# EAGLE library part I__74*348 (library ..SMD)
8-to 3 line PRIORITY ENCODER, 3-state
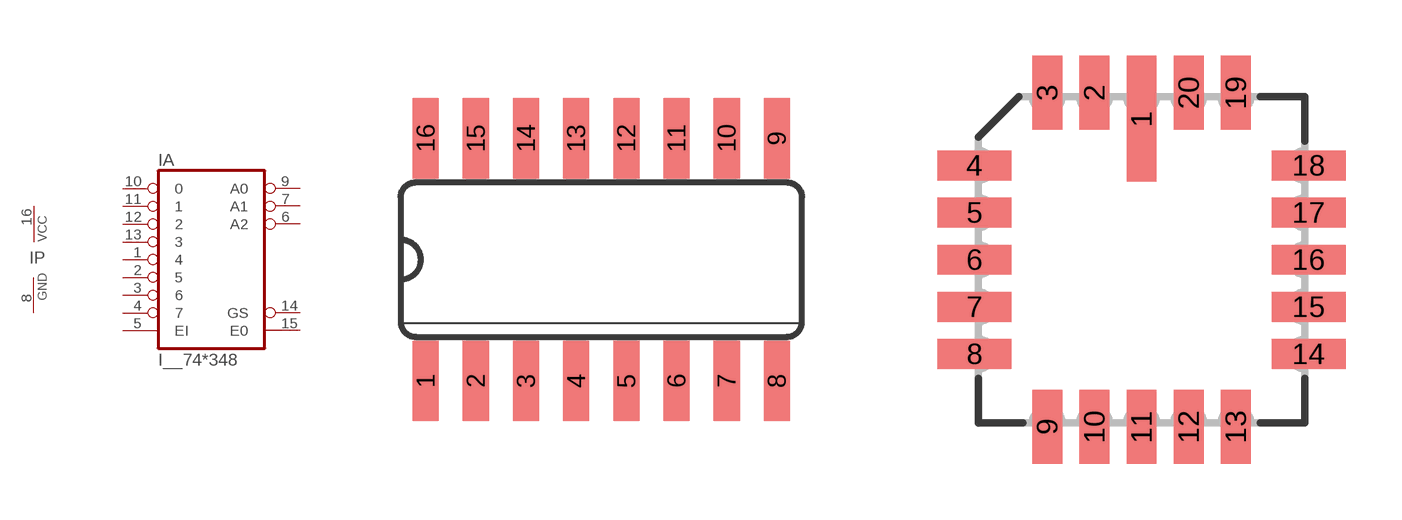
[diagram p267: symbol with the pads of SO16; footprints SO16, LCC20]

Designator prefix I; gates A=74348 P=PWRN-2

## I__74LS348D  [SO16]
1  A:4  in
2  A:5  in
3  A:6  in
4  A:7  in
5  A:EI  in
6  A:A2  hiz
7  A:A1  hiz
8  P:GND  pwr
9  A:A0  hiz
10  A:0  in
11  A:1  in
12  A:2  in
13  A:3  in
14  A:GS  hiz
15  A:E0  out
16  P:VCC  pwr

## I__74LS348FK  [LCC20]
2  A:4  in
3  A:5  in
4  A:6  in
5  A:7  in
7  A:EI  in
8  A:A2  hiz
9  A:A1  hiz
10  P:GND  pwr
12  A:A0  hiz
13  A:0  in
14  A:1  in
15  A:2  in
17  A:3  in
18  A:GS  hiz
19  A:E0  out
20  P:VCC  pwr

## Footprint SO16 (pad centres in mm)
Small Outline Package 16
smd 0.66 x 2.032: 1 -4.445,-3.073; 2 -3.175,-3.073; 3 -1.905,-3.073; 4 -0.635,-3.073; 5 0.635,-3.073; 6 1.905,-3.073; 7 3.175,-3.073; 8 4.445,-3.073; 9 4.445,3.073; 10 3.175,3.073; 11 1.905,3.073; 12 0.635,3.073; 13 -0.635,3.073; 14 -1.905,3.073; 15 -3.175,3.073; 16 -4.445,3.073

## Footprint LCC20 (pad centres in mm)
Leadless Chip Carrier Ceramic Package
smd 0.8 x 3.4: 1 0,3.8
smd 0.8 x 2: 2 -1.27,4.5; 3 -2.54,4.5; 9 -2.54,-4.5; 10 -1.27,-4.5; 11 0,-4.5; 12 1.27,-4.5; 13 2.54,-4.5; 19 2.54,4.5; 20 1.27,4.5
smd 2 x 0.8: 4 -4.5,2.54; 5 -4.5,1.27; 6 -4.5,0; 7 -4.5,-1.27; 8 -4.5,-2.54; 14 4.5,-2.54; 15 4.5,-1.27; 16 4.5,0; 17 4.5,1.27; 18 4.5,2.54